# Altium footprint library IRLZ44N.PcbLib: 1 footprints
Each footprint in its own frame and in the unit in brackets; x right, y up, seen from the top. Pads: shape width x height; smd on the part's side, far side on the other; paste and mask are expansions set on the pad; w line width, h text height; cw(c..) or ccw(c..) is an arc to the next point about the centre after c.
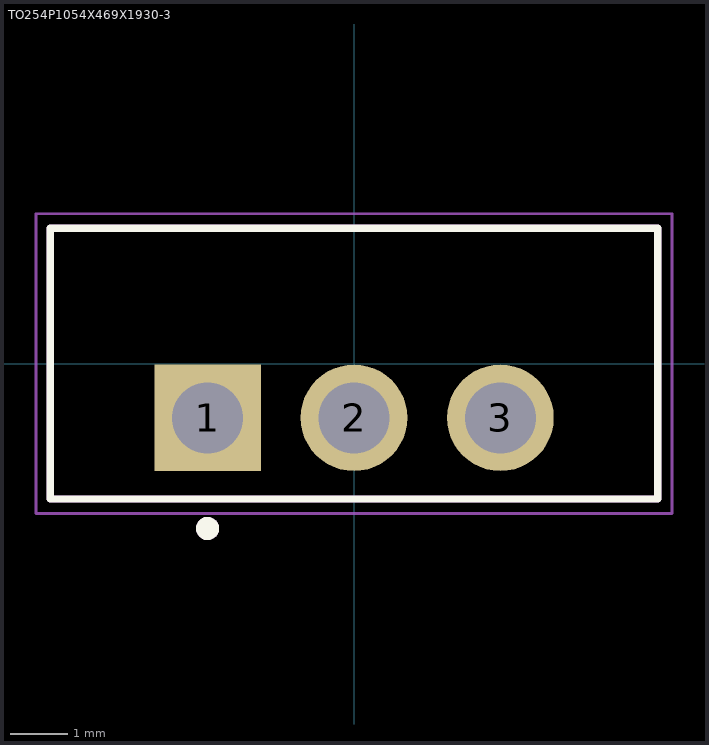
[diagram p0: the footprint, top view; thin cyan lines are the x and y axes]

## TO254P1054X469X1930-3 [mm]
height 19.3
pads (3):
  rect 1.85x1.85 / inner round 1.85 / far side rect 1.85x1.85 hole 1.23: 1(-2.54,-0.94)
  round 1.85 hole 1.23: 2(0,-0.94) 3(2.54,-0.94)
Top Overlay:
  circle w0.2: c-2.54,-2.86 r0.1
  lines w0.127: -5.27,-2.35 -5.27,2.35 5.27,2.35 5.27,-2.35 -5.27,-2.35
Mechanical 13:
  circle w0.2: c-2.54,-2.86 r0.1
  lines w0.127: -5.27,-2.35 5.27,-2.35 5.27,2.35 -5.27,2.35 -5.27,-2.35
Mechanical 15:
  lines w0.05: -5.52,-2.6 -5.52,2.6 5.52,2.6 5.52,-2.6 -5.52,-2.6
3D body "step_temp.STEP": height 15.01, standoff -10.39, extent -5.08,-1.714 5.08,2.73